# Altium schematic symbol library WS2812B.Schlib: 1 symbol
Pins are listed as number, name and electrical type; pins without a type are passive.

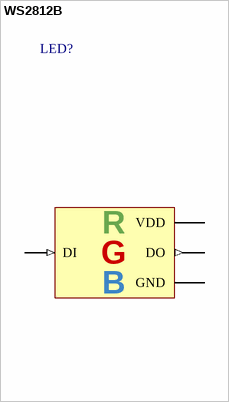
[diagram p0: symbol WS2812B]

## WS2812B
designator LED?
WS2812B RGB LED
pins: 1 VDD (power), 2 DO (out), 3 GND (power), 4 DI (in)
text: R; G; B